# Altium footprint library MSOP-10.PcbLib: 1 footprints
Each footprint in its own frame and in the unit in brackets; x right, y up, seen from the top. Pads: shape width x height; smd on the part's side, far side on the other; paste and mask are expansions set on the pad; w line width, h text height; cw(c..) or ccw(c..) is an arc to the next point about the centre after c.
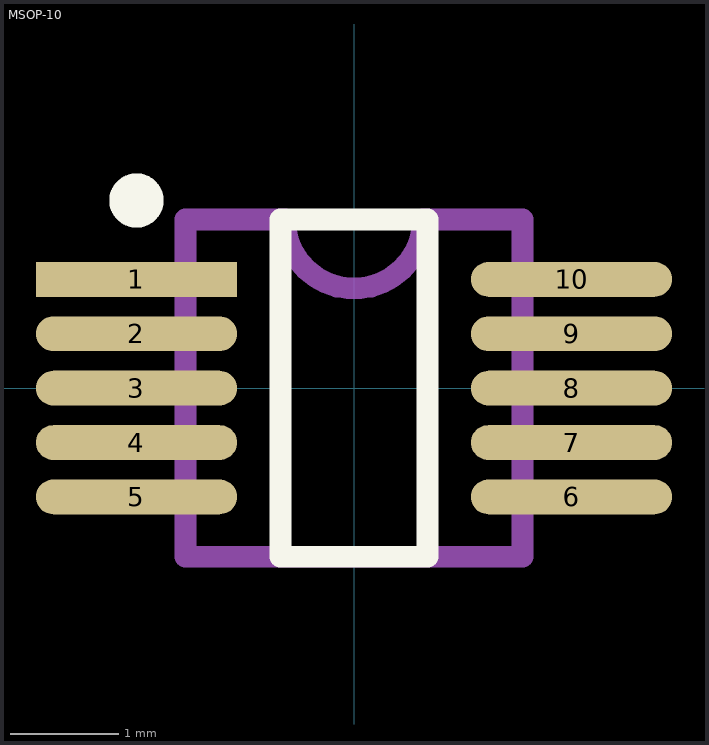
[diagram p0: the footprint, top view; thin cyan lines are the x and y axes]

## MSOP-10 [mm] "SSOP, 10-Leads, Body 3,1x3,1mm (max), Pitch 0,50mm, IPC Medium Density"
height 2.65
pads (10):
  rect 1.85x0.32 smd: 1(-2,1)
  oval 1.85x0.32 smd: 2(-2,0.5) 3(-2,0) 4(-2,-0.5) 5(-2,-1) 6(2,-1) 7(2,-0.5) 8(2,0) 9(2,0.5) 10(2,1)
Top Overlay:
  circle w0.25: c-2,1.725 r0.125
  lines w0.2: -0.675,-1.55 0.675,-1.55 0.675,1.55 -0.675,1.55 -0.675,-1.55
Mechanical 13:
  lines w0.2: -1.55,-1.55 1.55,-1.55 1.55,1.55 0.635,1.55 cw(c0,1.55) -0.635,1.55 -1.55,1.55 -1.55,-1.55
  text ".Designator" at -0.381,0.381 h1.5
3D body: height 0.85, standoff -0.05, extent -2.487,-1.5 2.413,1.5